# Altium footprint library ALLEGRO PFF.PCBLIB: 1 footprints
Each footprint in its own frame and in the unit in brackets; x right, y up, seen from the top. Pads: shape width x height; smd on the part's side, far side on the other; paste and mask are expansions set on the pad; w line width, h text height; cw(c..) or ccw(c..) is an arc to the next point about the centre after c.
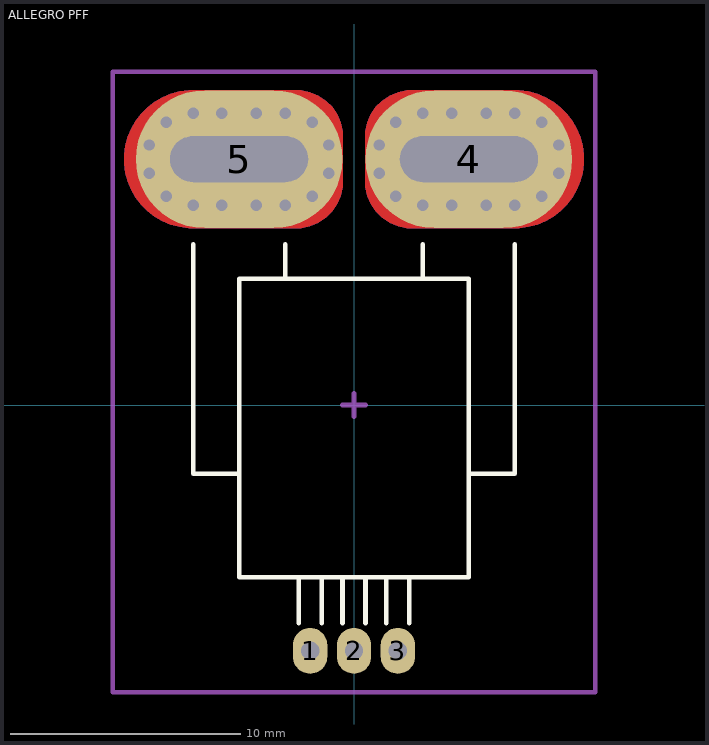
[diagram p0: the footprint, top view; thin cyan lines are the x and y axes]

## ALLEGRO PFF [mm]
height 7
pads (5):
  oval 1.5x2 hole 0.8: 1(-1.91,-10.7) 2(0,-10.7) 3(1.91,-10.7)
  oval 9x6 hole 2 slot 6 at 0 deg: 4(5,10.7) 5(-5,10.7)
via -4.25,12.7 diameter 0.9 hole 0.5
via -7,12.7 diameter 0.9 hole 0.5
via -8.176,12.318 diameter 0.9 hole 0.5
via -8.902,11.318 diameter 0.9 hole 0.5
via -8.902,10.082 diameter 0.9 hole 0.5
via -8.176,9.082 diameter 0.9 hole 0.5
via -7,8.7 diameter 0.9 hole 0.5
via -3,8.7 diameter 0.9 hole 0.5
via -1.824,9.082 diameter 0.9 hole 0.5
via -1.098,10.082 diameter 0.9 hole 0.5
via -1.098,11.318 diameter 0.9 hole 0.5
via -1.824,12.318 diameter 0.9 hole 0.5
via -3,12.7 diameter 0.9 hole 0.5
via -5.75,12.7 diameter 0.9 hole 0.5
via -5.75,8.7 diameter 0.9 hole 0.5
via -4.25,8.7 diameter 0.9 hole 0.5
via 5.75,12.7 diameter 0.9 hole 0.5
via 3,12.7 diameter 0.9 hole 0.5
via 1.824,12.318 diameter 0.9 hole 0.5
via 1.098,11.318 diameter 0.9 hole 0.5
via 1.098,10.082 diameter 0.9 hole 0.5
via 1.824,9.082 diameter 0.9 hole 0.5
via 3,8.7 diameter 0.9 hole 0.5
via 7,8.7 diameter 0.9 hole 0.5
via 8.176,9.082 diameter 0.9 hole 0.5
via 8.902,10.082 diameter 0.9 hole 0.5
via 8.902,11.318 diameter 0.9 hole 0.5
via 8.176,12.318 diameter 0.9 hole 0.5
via 7,12.7 diameter 0.9 hole 0.5
via 4.25,12.7 diameter 0.9 hole 0.5
via 4.25,8.7 diameter 0.9 hole 0.5
via 5.75,8.7 diameter 0.9 hole 0.5
Top Layer:
  region: 7,13.7 7.197,13.7 7.587,13.649 7.966,13.547 8.33,13.396 8.67,13.2 8.982,12.96 9.26,12.682 9.5,12.37 9.696,12.03 9.847,11.666 9.949,11.287 10,10.897 10,10.7 10,10.503 9.949,10.113 9.847,9.734 9.696,9.37 9.5,9.03 9.26,8.718 8.982,8.44 8.67,8.2 8.33,8.004 7.966,7.853 7.587,7.751 7.197,7.7 7,7.7 2.5,7.7 2.303,7.7 1.917,7.777 1.553,7.928 1.225,8.146 0.946,8.425 0.728,8.753 0.577,9.117 0.5,9.503 0.5,9.7 0.5,11.7 0.5,11.897 0.577,12.283 0.728,12.647 0.946,12.975 1.225,13.254 1.553,13.472 1.917,13.623 2.303,13.7 2.5,13.7
  region: -7,13.7 -7.197,13.7 -7.587,13.649 -7.966,13.547 -8.33,13.396 -8.67,13.2 -8.982,12.96 -9.26,12.682 -9.5,12.37 -9.696,12.03 -9.847,11.666 -9.949,11.287 -10,10.897 -10,10.7 -10,10.503 -9.949,10.113 -9.847,9.734 -9.696,9.37 -9.5,9.03 -9.26,8.718 -8.982,8.44 -8.67,8.2 -8.33,8.004 -7.966,7.853 -7.587,7.751 -7.197,7.7 -7,7.7 -2.5,7.7 -2.303,7.7 -1.917,7.777 -1.553,7.928 -1.225,8.146 -0.946,8.425 -0.728,8.753 -0.577,9.117 -0.5,9.503 -0.5,9.7 -0.5,11.7 -0.5,11.897 -0.577,12.283 -0.728,12.647 -0.946,12.975 -1.225,13.254 -1.553,13.472 -1.917,13.623 -2.303,13.7 -2.5,13.7
Bottom Layer:
  region: 7,13.7 7.197,13.7 7.587,13.649 7.966,13.547 8.33,13.396 8.67,13.2 8.982,12.96 9.26,12.682 9.5,12.37 9.696,12.03 9.847,11.666 9.949,11.287 10,10.897 10,10.7 10,10.503 9.949,10.113 9.847,9.734 9.696,9.37 9.5,9.03 9.26,8.718 8.982,8.44 8.67,8.2 8.33,8.004 7.966,7.853 7.587,7.751 7.197,7.7 7,7.7 2.5,7.7 2.303,7.7 1.917,7.777 1.553,7.928 1.225,8.146 0.946,8.425 0.728,8.753 0.577,9.117 0.5,9.503 0.5,9.7 0.5,11.7 0.5,11.897 0.577,12.283 0.728,12.647 0.946,12.975 1.225,13.254 1.553,13.472 1.917,13.623 2.303,13.7 2.5,13.7
  region: -7,13.7 -7.197,13.7 -7.587,13.649 -7.966,13.547 -8.33,13.396 -8.67,13.2 -8.982,12.96 -9.26,12.682 -9.5,12.37 -9.696,12.03 -9.847,11.666 -9.949,11.287 -10,10.897 -10,10.7 -10,10.503 -9.949,10.113 -9.847,9.734 -9.696,9.37 -9.5,9.03 -9.26,8.718 -8.982,8.44 -8.67,8.2 -8.33,8.004 -7.966,7.853 -7.587,7.751 -7.197,7.7 -7,7.7 -2.5,7.7 -2.303,7.7 -1.917,7.777 -1.553,7.928 -1.225,8.146 -0.946,8.425 -0.728,8.753 -0.577,9.117 -0.5,9.503 -0.5,9.7 -0.5,11.7 -0.5,11.897 -0.577,12.283 -0.728,12.647 -0.946,12.975 -1.225,13.254 -1.553,13.472 -1.917,13.623 -2.303,13.7 -2.5,13.7
Top Overlay:
  lines w0.2: -7,7 -7,-3 -5,-3 ; -3,5.5 -3,7 ; -2.41,-9.5 -2.41,-7.5 ; -1.41,-9.5 -1.41,-7.5 ; -0.5,-9.5 -0.5,-7.5 ; 0.5,-9.5 0.5,-7.5 ; 1.41,-9.5 1.41,-7.5 ; 2.41,-9.5 2.41,-7.5 ; 3,5.5 3,7 ; 5,-3 7,-3 7,7 ; -5,-7.5 -5,5.5 5,5.5 5,-7.5 -5,-7.5
Mechanical 15:
  lines w0.2: -0.5,0 0.5,0 ; 0,-0.5 0,0.5 ; -10.5,-12.5 10.5,-12.5 10.5,14.5 -10.5,14.5 -10.5,-12.5
3D body "Allegro PFF.STEP": height 7, standoff -3.52, extent -7,-11.086 7,11.5